# EAGLE library part 87831-0641 (library robotter_connector)
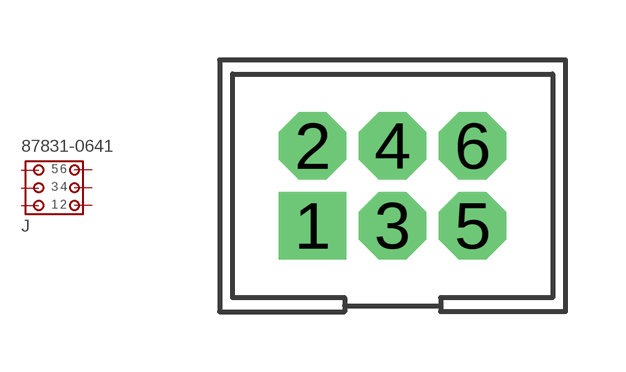
[diagram p19: symbol with the pads of 87831-0641; footprint 87831-0641]

Designator prefix J

## 87831-0641 (FARNELL: 1393817)  [87831-0641]
1  1  pas
2  2  pas
3  3  pas
4  4  pas
5  5  pas
6  6  pas

## Footprint 87831-0641 (pad centres in mm)
drill 1 pad 1.676 square: 1 -2,-1
drill 1 pad 1.676 octagon: 2 -2,1; 3 0,-1; 4 0,1; 5 2,-1; 6 2,1